# Altium footprint library CAPAE.PcbLib: 14 footprints
Each footprint in its own frame and in the unit in brackets; x right, y up, seen from the top. Pads: shape width x height; smd on the part's side, far side on the other; paste and mask are expansions set on the pad; w line width, h text height; cw(c..) or ccw(c..) is an arc to the next point about the centre after c.
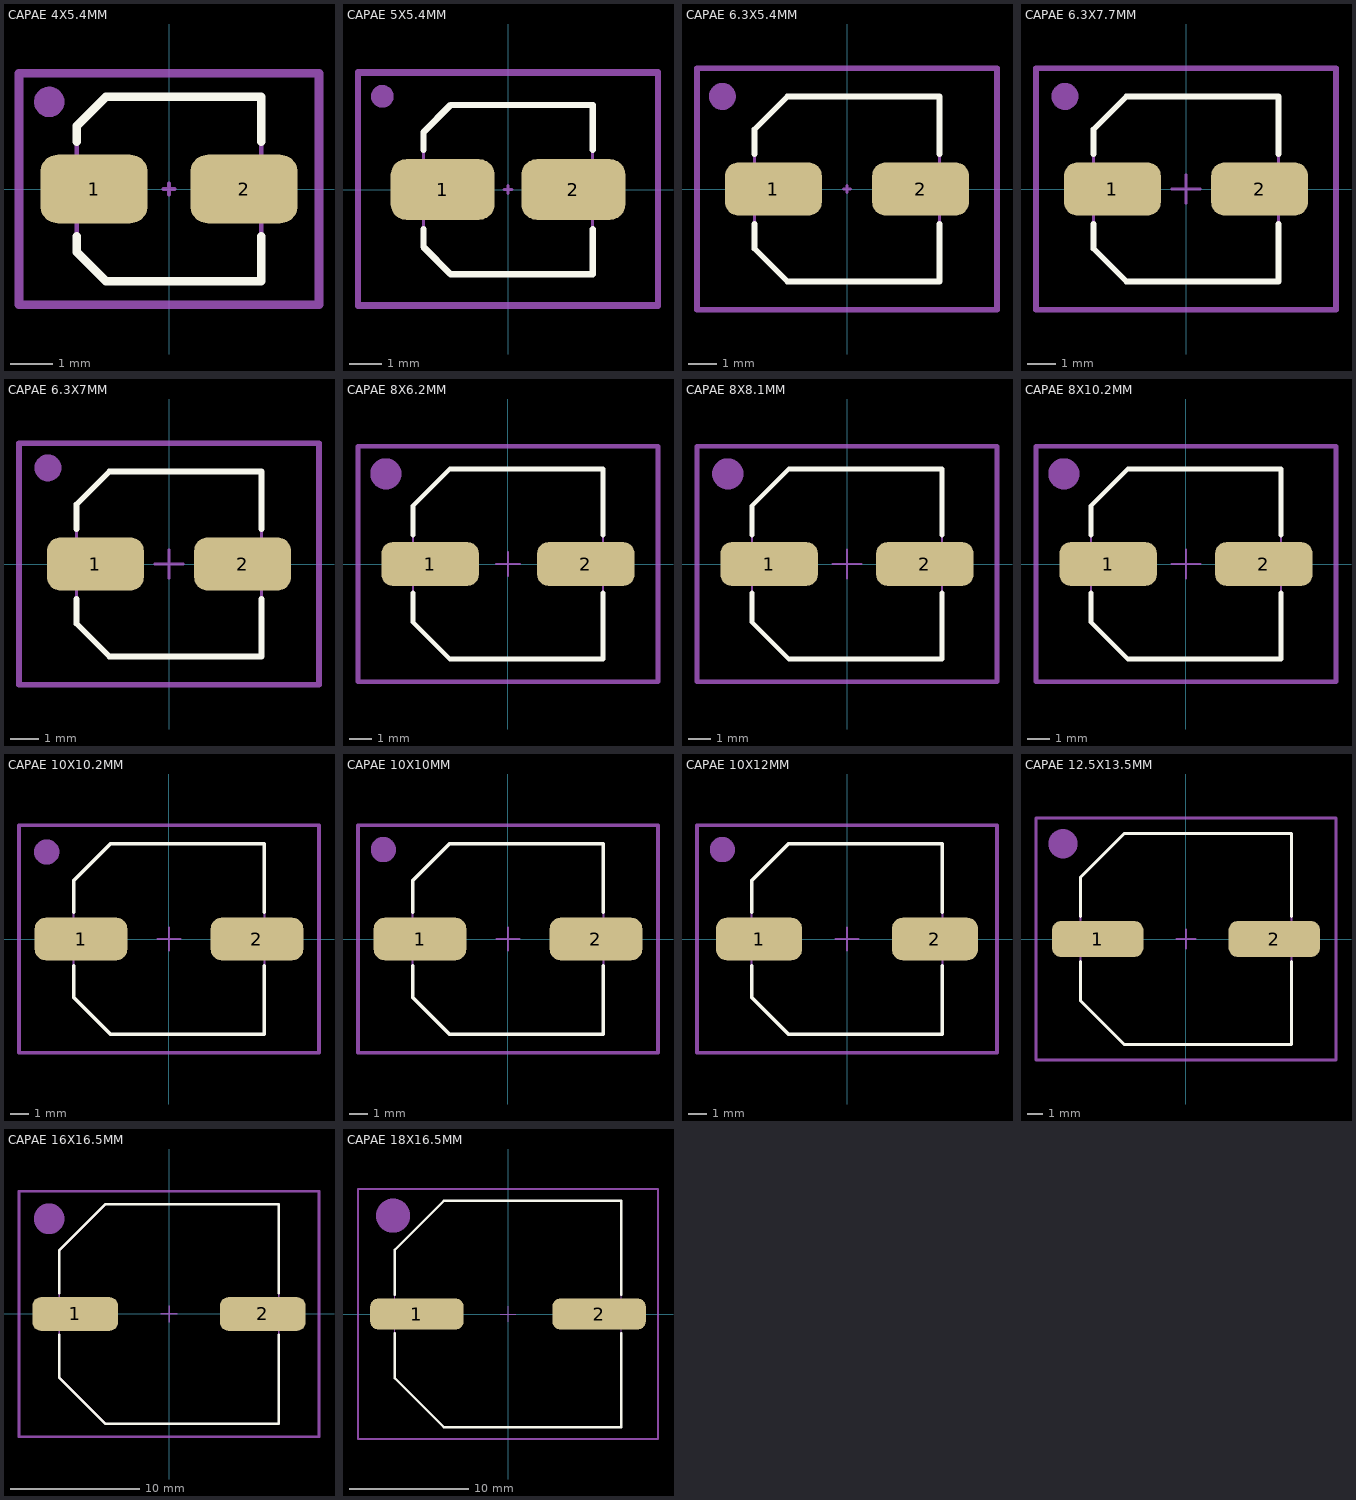
[diagram p0: the footprints below, top view; thin cyan lines are the x and y axes]

## CAPAE 4X5.4MM [mm]
pads (2):
  rrect50% 2.5x1.6 smd: 1(-1.75,0) 2(1.75,0)
Top Overlay:
  lines w0.2: -2.15,-1.1 -2.15,-1.475 -1.475,-2.15 2.15,-2.15 2.15,-1.1 ; -2.15,1.1 -2.15,1.475 -1.475,2.15 2.15,2.15 2.15,1.1
Mechanical 13:
  lines w0.1: -2.15,-1.475 -1.475,-2.15 2.15,-2.15 2.15,2.15 -1.475,2.15 -2.15,1.475 -2.15,-1.475
Mechanical 15:
  circle w0.35: c-2.794,2.032 r0.18
  lines w0.1: -0.127,0 0.127,0 ; 0,-0.127 0,0.127
  lines w0.2: -3.5,-2.7 3.5,-2.7 3.5,2.7 -3.5,2.7 -3.5,-2.7
Mechanical 27:
  circle w0.35: c-2.794,2.032 r0.18
  lines w0.2: -3.5,-2.7 -3.5,2.7 3.5,2.7 3.5,-2.7 -3.5,-2.7
  text "'.Designator'" at -2.286,-1.143 h4
3D body "CAPAE4843X54M.step": height 5.4, standoff 0, extent -2.4,-2.15 2.4,2.15

## CAPAE 5X5.4MM [mm]
pads (2):
  rrect50% 3.25x1.9 smd: 1(-2.05,0) 2(2.05,0)
Top Overlay:
  lines w0.2: -2.65,-1.25 -2.65,-1.8 -1.8,-2.65 2.65,-2.65 2.65,-1.25 ; -2.65,1.25 -2.65,1.8 -1.8,2.65 2.65,2.65 2.65,1.25
Mechanical 13:
  lines w0.1: -2.65,-1.8 -1.8,-2.65 2.65,-2.65 2.65,2.65 -1.8,2.65 -2.65,1.8 -2.65,-1.8
Mechanical 15:
  circle w0.35: c-3.937,2.921 r0.18
  lines w0.1: -0.127,0 0.127,0 ; 0,-0.127 0,0.127
  lines w0.2: -4.701,-3.617 4.699,-3.617 4.699,3.683 -4.701,3.683 -4.701,-3.617
Mechanical 27:
  circle w0.35: c-3.937,2.921 r0.18
  lines w0.2: -4.7,-3.65 -4.7,3.65 4.7,3.65 4.7,-3.65 -4.7,-3.65
  text "'.Designator'" at -3.556,-1.778 h6
3D body "CAPAE5853X54M.step": height 5.4, standoff 0, extent -2.9,-2.65 2.9,2.65

## CAPAE 6.3X5.4MM [mm]
pads (2):
  rrect50% 3.45x1.9 smd: 1(-2.625,0) 2(2.625,0)
Top Overlay:
  lines w0.2: -3.3,-1.25 -3.3,-2.125 -2.125,-3.3 3.3,-3.3 3.3,-1.25 ; -3.3,1.25 -3.3,2.125 -2.125,3.3 3.3,3.3 3.3,1.25
Mechanical 13:
  lines w0.1: -3.3,-2.125 -2.125,-3.3 3.3,-3.3 3.3,3.3 -2.125,3.3 -3.3,2.125 -3.3,-2.125
Mechanical 15:
  circle w0.6: c-4.445,3.302 r0.18
  lines w0.1: -0.127,0 0.127,0 ; 0,-0.127 0,0.127
  lines w0.2: -5.35,-4.3 5.35,-4.3 5.35,4.3 -5.35,4.3 -5.35,-4.3
Mechanical 27:
  circle w0.6: c-4.445,3.302 r0.18
  lines w0.2: -5.35,-4.3 -5.35,4.3 5.35,4.3 5.35,-4.3 -5.35,-4.3
  text "'.Designator'" at -4.064,-2.286 h7
3D body "User Library-ALU-D.STEP": height 5.4, standoff 0, extent -3.571,-3.298 3.429,3.302

## CAPAE 6.3X7.7MM [mm]
pads (2):
  rrect50% 3.45x1.9 smd: 1(-2.625,0) 2(2.625,0)
Top Overlay:
  lines w0.2: -3.3,-1.25 -3.3,-2.125 -2.125,-3.3 3.3,-3.3 3.3,-1.25 ; -3.3,1.25 -3.3,2.125 -2.125,3.3 3.3,3.3 3.3,1.25
Mechanical 13:
  lines w0.1: -3.3,-2.125 -3.3,2.125 -2.125,3.3 3.3,3.3 3.3,-3.3 -2.125,-3.3 -3.3,-2.125
Mechanical 15:
  circle w0.6: c-4.318,3.302 r0.18
  lines w0.1: -0.508,0 0.508,0 ; 0,-0.508 0,0.508
  lines w0.2: -5.35,-4.3 -5.35,4.3 5.35,4.3 5.35,-4.3 -5.35,-4.3
Mechanical 27:
  circle w0.6: c-4.318,3.302 r0.18
  lines w0.2: -5.35,-4.3 5.35,-4.3 5.35,4.3 -5.35,4.3 -5.35,-4.3
  text "'.Designator'" at -4.064,-2.159 h7
3D body "User Library-CC0607.step": height 8.11, standoff 0, extent -3.627,-3.298 3.373,3.302

## CAPAE 6.3X7MM [mm]
pads (2):
  rrect50% 3.45x1.9 smd: 1(-2.625,0) 2(2.625,0)
Top Overlay:
  lines w0.2: -3.3,-1.25 -3.3,-2.125 -2.125,-3.3 3.3,-3.3 3.3,-1.25 ; -3.3,1.25 -3.3,2.125 -2.125,3.3 3.3,3.3 3.3,1.25
Mechanical 13:
  lines w0.1: -3.3,-2.125 -2.125,-3.3 3.3,-3.3 3.3,3.3 -2.125,3.3 -3.3,2.125 -3.3,-2.125
Mechanical 15:
  circle w0.6: c-4.318,3.429 r0.18
  lines w0.1: -0.508,0 0.508,0 ; 0,-0.508 0,0.508
  lines w0.2: -5.35,-4.3 5.35,-4.3 5.35,4.3 -5.35,4.3 -5.35,-4.3
Mechanical 27:
  circle w0.6: c-4.318,3.429 r0.18
  lines w0.2: -5.35,-4.3 -5.35,4.3 5.35,4.3 5.35,-4.3 -5.35,-4.3
  text "'.Designator'" at -4.064,-2.159 h7
3D body "CAPAE7266X70M.step": height 7, standoff 0, extent -3.575,-3.3 3.575,3.3

## CAPAE 8X6.2MM [mm]
pads (2):
  rrect50% 4.25x1.9 smd: 1(-3.4,0) 2(3.4,0)
Top Overlay:
  lines w0.2: -4.15,-1.25 -4.15,-2.55 -2.55,-4.15 4.15,-4.15 4.15,-1.25 ; -4.15,1.25 -4.15,2.55 -2.55,4.15 4.15,4.15 4.15,1.25
Mechanical 13:
  lines w0.1: -4.15,-2.55 -2.55,-4.15 4.15,-4.15 4.15,4.15 -2.55,4.15 -4.15,2.55 -4.15,-2.55
Mechanical 15:
  circle w1: c-5.334,3.937 r0.18
  lines w0.1: -0.508,0 0.508,0 ; 0,-0.508 0,0.508
  lines w0.2: -6.55,-5.15 6.55,-5.15 6.55,5.15 -6.55,5.15 -6.55,-5.15
Mechanical 27:
  circle w1: c-5.334,3.937 r0.18
  lines w0.2: -6.55,-5.15 -6.55,5.15 6.55,5.15 6.55,-5.15 -6.55,-5.15
  text "'.Designator'" at -4.699,-2.413 h8
3D body "User Library-ALU-E.STEP": height 6.2, standoff 0, extent -4.5,-4.15 4.5,4.15

## CAPAE 8X8.1MM [mm]
pads (2):
  rrect50% 4.25x1.9 smd: 1(-3.4,0) 2(3.4,0)
Top Overlay:
  lines w0.2: -4.15,-1.25 -4.15,-2.55 -2.55,-4.15 4.15,-4.15 4.15,-1.25 ; -4.15,1.25 -4.15,2.55 -2.55,4.15 4.15,4.15 4.15,1.25
Mechanical 13:
  lines w0.1: -4.15,-2.55 -2.55,-4.15 4.15,-4.15 4.15,4.15 -2.55,4.15 -4.15,2.55 -4.15,-2.55
Mechanical 15:
  circle w1: c-5.207,3.937 r0.18
  lines w0.1: -0.635,0 0.635,0 ; 0,-0.635 0,0.635
  lines w0.2: -6.55,-5.15 6.55,-5.15 6.55,5.15 -6.55,5.15 -6.55,-5.15
Mechanical 27:
  circle w1: c-5.207,3.937 r0.18
  lines w0.2: -6.55,-5.15 -6.55,5.15 6.55,5.15 6.55,-5.15 -6.55,-5.15
  text "'.Designator'" at -4.572,-2.413 h8
3D body "CAPAE9583X81M.step": height 8.1, standoff 0, extent -4.75,-4.15 4.75,4.15

## CAPAE 8X10.2MM [mm]
pads (2):
  rrect50% 4.25x1.9 smd: 1(-3.4,0) 2(3.4,0)
Top Overlay:
  lines w0.2: -4.15,-1.25 -4.15,-2.55 -2.55,-4.15 4.15,-4.15 4.15,-1.25 ; -4.15,1.25 -4.15,2.55 -2.55,4.15 4.15,4.15 4.15,1.25
Mechanical 13:
  lines w0.1: -4.15,-2.55 -4.15,2.55 -2.55,4.15 4.15,4.15 4.15,-4.15 -2.55,-4.15 -4.15,-2.55
Mechanical 15:
  circle w1: c-5.334,3.937 r0.18
  lines w0.1: -0.635,0 0.635,0 ; 0,-0.635 0,0.635
  lines w0.2: -6.55,-5.15 -6.55,5.15 6.55,5.15 6.55,-5.15 -6.55,-5.15
Mechanical 27:
  circle w1: c-5.334,3.937 r0.18
  lines w0.2: -6.55,-5.15 6.55,-5.15 6.55,5.15 -6.55,5.15 -6.55,-5.15
  text "'.Designator'" at -4.699,-2.413 h8
3D body "User Library-ALU-F.STEP": height 10.2, standoff 0, extent -4.95,-4.15 4.95,4.15

## CAPAE 10X10.2MM [mm]
pads (2):
  rrect50% 5x2.3 smd: 1(-4.75,0) 2(4.75,0)
Top Overlay:
  lines w0.2: -5.15,-1.45 -5.15,-3.15 -3.15,-5.15 5.15,-5.15 5.15,-1.45 ; -5.15,1.45 -5.15,3.15 -3.15,5.15 5.15,5.15 5.15,1.45
Mechanical 13:
  lines w0.1: -5.15,-3.15 -5.15,3.15 -3.15,5.15 5.15,5.15 5.15,-5.15 -3.15,-5.15 -5.15,-3.15
Mechanical 15:
  circle w1: c-6.604,4.699 r0.18
  lines w0.1: -0.635,0 0.635,0 ; 0,-0.635 0,0.635
  lines w0.2: -8.1,-6.15 -8.1,6.15 8.1,6.15 8.1,-6.15 -8.1,-6.15
Mechanical 27:
  circle w1: c-6.604,4.699 r0.18
  lines w0.2: -8.1,-6.15 8.1,-6.15 8.1,6.15 -8.1,6.15 -8.1,-6.15
  text "'.Designator'" at -4.699,-2.54 h8
3D body "User Library-ALU-G.STEP": height 10.2, standoff 0, extent -5.8,-5.15 5.8,5.15

## CAPAE 10X10MM [mm]
pads (2):
  rrect50% 5x2.3 smd: 1(-4.75,0) 2(4.75,0)
Top Overlay:
  lines w0.2: -5.15,-1.45 -5.15,-3.15 -3.15,-5.15 5.15,-5.15 5.15,-1.45 ; -5.15,1.45 -5.15,3.15 -3.15,5.15 5.15,5.15 5.15,1.45
Mechanical 13:
  lines w0.1: -5.15,-3.15 -3.15,-5.15 5.15,-5.15 5.15,5.15 -3.15,5.15 -5.15,3.15 -5.15,-3.15
Mechanical 15:
  circle w1: c-6.731,4.826 r0.18
  lines w0.1: -0.635,0 0.635,0 ; 0,-0.635 0,0.635
  lines w0.2: -8.1,-6.15 8.1,-6.15 8.1,6.15 -8.1,6.15 -8.1,-6.15
Mechanical 27:
  circle w1: c-6.731,4.826 r0.18
  lines w0.2: -8.1,-6.15 -8.1,6.15 8.1,6.15 8.1,-6.15 -8.1,-6.15
  text "'.Designator'" at -4.699,-2.54 h8
3D body "User Library-CC1010.step": height 10.41, standoff 0, extent -5.5,-5.2 5.5,5.2

## CAPAE 10X12MM [mm]
pads (2):
  rrect50% 4.65x2.3 smd: 1(-4.75,0) 2(4.75,0)
Top Overlay:
  lines w0.2: -5.15,-1.45 -5.15,-3.15 -3.15,-5.15 5.15,-5.15 5.15,-1.45 ; -5.15,1.45 -5.15,3.15 -3.15,5.15 5.15,5.15 5.15,1.45
Mechanical 13:
  lines w0.1: -5.15,-3.15 -5.15,3.15 -3.15,5.15 5.15,5.15 5.15,-5.15 -3.15,-5.15 -5.15,-3.15
Mechanical 15:
  circle w1: c-6.731,4.826 r0.18
  lines w0.1: -0.635,0 0.635,0 ; 0,-0.635 0,0.635
  lines w0.2: -8.1,-6.15 -8.1,6.15 8.1,6.15 8.1,-6.15 -8.1,-6.15
Mechanical 27:
  circle w1: c-6.731,4.826 r0.18
  lines w0.2: -8.1,-6.15 8.1,-6.15 8.1,6.15 -8.1,6.15 -8.1,-6.15
  text "'.Designator'" at -4.699,-2.54 h8
3D body "CAPAE120103X120M.step": height 12, standoff 0, extent -6,-5.15 6,5.15

## CAPAE 12.5X13.5MM [mm]
pads (2):
  rrect50% 5.85x2.3 smd: 1(-5.65,0) 2(5.65,0)
Top Overlay:
  lines w0.2: -6.75,-1.45 -6.75,-3.95 -3.95,-6.75 6.75,-6.75 6.75,-1.45 ; -6.75,1.45 -6.75,3.95 -3.95,6.75 6.75,6.75 6.75,1.45
Mechanical 13:
  lines w0.1: -6.75,-3.95 -6.75,3.95 -3.95,6.75 6.75,6.75 6.75,-6.75 -3.95,-6.75 -6.75,-3.95
Mechanical 15:
  circle w1.5: c-7.874,6.096 r0.18
  lines w0.1: -0.635,0 0.635,0 ; 0,-0.635 0,0.635
  lines w0.2: -9.6,-7.75 -9.6,7.75 9.6,7.75 9.6,-7.75 -9.6,-7.75
Mechanical 27:
  circle w1.5: c-7.874,6.096 r0.18
  lines w0.2: -9.6,-7.75 9.6,-7.75 9.6,7.75 -9.6,7.75 -9.6,-7.75
  text "'.Designator'" at -5.715,-3.175 h10
3D body "CAPAE150135X135M.step": height 13.5, standoff 0, extent -7.5,-6.75 7.5,6.75

## CAPAE 16X16.5MM [mm]
pads (2):
  rrect50% 6.65x2.6 smd: 1(-7.25,0) 2(7.25,0)
Top Overlay:
  lines w0.2: -8.5,-1.6 -8.5,-4.9 -4.9,-8.5 8.5,-8.5 8.5,-1.6 ; -8.5,1.6 -8.5,4.9 -4.9,8.5 8.5,8.5 8.5,1.6
Mechanical 13:
  lines w0.1: -8.5,-4.9 -4.9,-8.5 8.5,-8.5 8.5,8.5 -4.9,8.5 -8.5,4.9 -8.5,-4.9
Mechanical 15:
  circle w2: c-9.271,7.366 r0.18
  lines w0.1: -0.635,0 0.635,0 ; 0,-0.635 0,0.635
  lines w0.2: -11.6,-9.5 11.6,-9.5 11.6,9.5 -11.6,9.5 -11.6,-9.5
Mechanical 27:
  circle w2: c-9.271,7.366 r0.18
  lines w0.2: -11.6,-9.5 -11.6,9.5 11.6,9.5 11.6,-9.5 -11.6,-9.5
  text "'.Designator'" at -6.985,-3.683 h12
3D body "CAPAE190170X165M.step": height 16.5, standoff 0, extent -9.5,-8.5 9.5,8.5

## CAPAE 18X16.5MM [mm]
pads (2):
  rrect50% 7.85x2.6 smd: 1(-7.65,0) 2(7.65,0)
Top Overlay:
  lines w0.2: -9.5,-1.6 -9.5,-5.4 -5.4,-9.5 9.5,-9.5 9.5,-1.6 ; -9.5,1.6 -9.5,5.4 -5.4,9.5 9.5,9.5 9.5,1.6
Mechanical 13:
  lines w0.1: -9.5,-5.4 -5.4,-9.5 9.5,-9.5 9.5,9.5 -5.4,9.5 -9.5,5.4 -9.5,-5.4
Mechanical 15:
  circle w2.5: c-9.652,8.255 r0.18
  lines w0.1: -0.635,0 0.635,0 ; 0,-0.635 0,0.635
  lines w0.2: -12.6,-10.5 12.6,-10.5 12.6,10.5 -12.6,10.5 -12.6,-10.5
Mechanical 27:
  circle w2.5: c-9.652,8.255 r0.18
  lines w0.2: -12.6,-10.5 -12.6,10.5 12.6,10.5 12.6,-10.5 -12.6,-10.5
  text "'.Designator'" at -8.128,-4.318 h14
3D body "CAPAE210190X165M.step": height 16.5, standoff -1.5, extent -10.5,-9.5 10.5,9.5